# Altium footprint library DFN.PcbLib: 4 footprints
Each footprint in its own frame and in the unit in brackets; x right, y up, seen from the top. Pads: shape width x height; smd on the part's side, far side on the other; paste and mask are expansions set on the pad; w line width, h text height; cw(c..) or ccw(c..) is an arc to the next point about the centre after c.
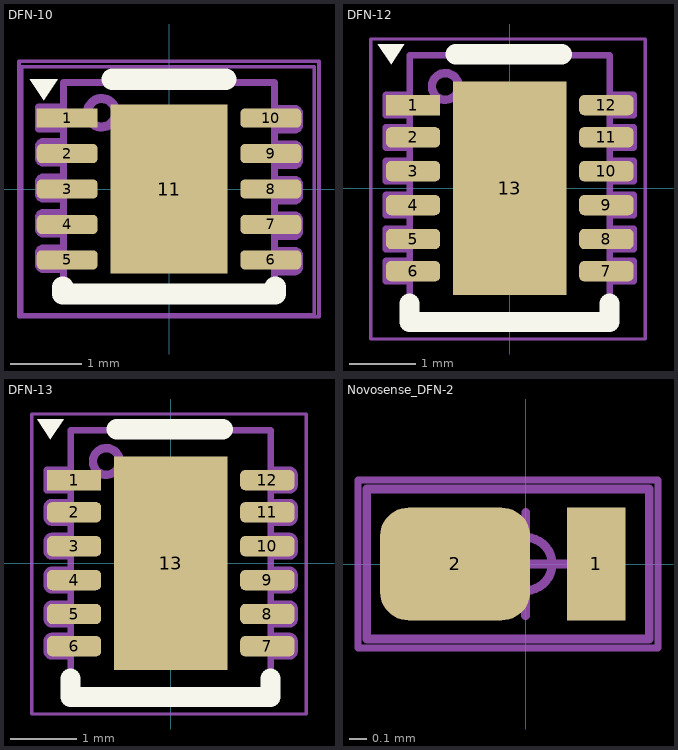
[diagram p0: the footprints below, top view; thin cyan lines are the x and y axes]

## DFN-10 [mm]
height 0.8
pads (11):
  rect 0.86x0.27 smd: 1(-1.435,1)
  rrect50% 0.86x0.27 smd: 2(-1.435,0.5) 3(-1.435,0) 4(-1.435,-0.5) 5(-1.435,-1) 6(1.435,-1) 7(1.435,-0.5) 8(1.435,0) 9(1.435,0.5) 10(1.435,1)
  rect 1.65x2.38 smd paste-2: 11(0,0)
Top Overlay:
  region: -1.566,1.549 -1.965,1.549 -1.765,1.25
  lines w0.3: -1.499,-1.382 -1.499,-1.482 1.499,-1.482 1.499,-1.382 ; -0.8,1.549 0.8,1.549
Top Paste:
  region: 0.522,-0.753 -0.522,-0.753 -0.522,0.753 0.522,0.753
Top Assembly:
  circle w0.127: c-0.95,1.075 r0.2
  lines w0.1: -1.486,-1.135 -1.765,-1.135 cw(c-1.765,-1.059) -1.841,-1.059 -1.841,-0.906 cw(c-1.765,-0.906) -1.765,-0.83 -1.486,-0.83 ; -1.486,-0.635 -1.765,-0.635 cw(c-1.765,-0.559) -1.841,-0.559 -1.841,-0.406 cw(c-1.765,-0.406) -1.765,-0.33 -1.486,-0.33 ; -1.486,-0.143 -1.765,-0.143 cw(c-1.765,-0.067) -1.841,-0.067 -1.841,0.086 cw(c-1.765,0.086) -1.765,0.162 -1.486,0.162 ; -1.486,-0.135 -1.765,-0.135 cw(c-1.765,-0.059) -1.841,-0.059 -1.841,0.094 cw(c-1.765,0.094) -1.765,0.17 -1.486,0.17 ; -1.486,0.365 -1.765,0.365 cw(c-1.765,0.441) -1.841,0.441 -1.841,0.594 cw(c-1.765,0.594) -1.765,0.67 -1.486,0.67 ; -1.486,0.848 -1.841,0.848 -1.841,1.152 -1.486,1.152 ; 1.486,-1.17 1.765,-1.17 ccw(c1.765,-1.094) 1.841,-1.094 1.841,-0.941 ccw(c1.765,-0.941) 1.765,-0.865 1.486,-0.865 ; 1.486,-0.67 1.765,-0.67 ccw(c1.765,-0.594) 1.841,-0.594 1.841,-0.441 ccw(c1.765,-0.441) 1.765,-0.365 1.486,-0.365 ; 1.486,-0.17 1.765,-0.17 ccw(c1.765,-0.094) 1.841,-0.094 1.841,0.059 ccw(c1.765,0.059) 1.765,0.135 1.486,0.135 ; 1.486,0.33 1.765,0.33 ccw(c1.765,0.406) 1.841,0.406 1.841,0.559 ccw(c1.765,0.559) 1.765,0.635 1.486,0.635 ; 1.486,0.83 1.765,0.83 ccw(c1.765,0.906) 1.841,0.906 1.841,1.059 ccw(c1.765,1.059) 1.765,1.135 1.486,1.135 ; -1.486,-1.5 -1.486,1.5 1.486,1.5 1.486,-1.5 -1.486,-1.5
Top Component Outline:
  lines w0.05: -2.075,-1.775 2.05,-1.775 2.05,1.725 -2.075,1.725 -2.075,-1.775
Bottom Component Outline:
  lines w0.05: -2.115,-1.8 -2.115,1.8 2.115,1.8 2.115,-1.8 -2.115,-1.8
Top Component Center:
  circle w0.1: c0.001,0 r0.5
  lines w0.1: -0.685,0 0.712,0 ; 0,-0.706 0,0.691
3D body "step_temp.STEP": height 0.8, standoff 0, extent -1.5,-1.5 1.5,1.5

## DFN-12 [mil]
pads (13):
  rect 32x12 smd: 1(-57,49)
  rrect50% 32x12 smd: 2(-57,30) 3(-57,10) 4(-57,-10) 5(-57,-30) 6(-57,-49)
  rrect50% 32x12 smd mask+3.94: 7(57,-49) 8(57,-30) 9(57,-10) 10(57,10) 11(57,30) 12(57,49)
  rect 67x126 smd: 13(0,0)
Top Overlay:
  region: -62.15,85 -77.85,85 -70,73.23
  lines w11.81: -59,-68 -59,-79 59,-79 59,-68 ; -32,79 31,79
Top Solder:
  rectangle: -77,-59 77,59
Top Assembly:
  circle w5: c-38,60 r7.87
  lines w3.94: -59,-55 -73,-55 -73,-43 -59,-43 ; -59,-36 -73,-36 -73,-24 -59,-24 ; -59,-16 -73,-16 -73,-4 -59,-4 ; -59,4 -73,4 -73,16 -59,16 ; -59,24 -73,24 -73,36 -59,36 ; -59,43 -73,43 -73,55 -59,55 ; 59,-55 73,-55 73,-43 59,-43 ; 59,-36 73,-36 73,-24 59,-24 ; 59,-16 73,-16 73,-4 59,-4 ; 59,4 73,4 73,16 59,16 ; 59,24 73,24 73,36 59,36 ; 59,43 73,43 73,55 59,55 ; -59,-79 59,-79 59,78.35 -59,78.35 -59,-79
Top Component Outline:
  lines w1.97: -82,-89 -82,88 80,88 80,-89 -82,-89
Top Component Center:
  circle w3.94: c0,0 r19.68
  lines w3.94: -27,0 28,0 ; -0.03,-27.8 -0.03,27.2
3D body "LT1763MPDE-5PBF.stp": height 29.53, standoff 0, extent -59.06,-78.74 59.06,78.74

## DFN-13 [mil]
pads (13):
  rect 32x12 smd: 1(-57,49)
  rrect50% 32x12 smd: 2(-57,30) 3(-57,10) 4(-57,-10) 5(-57,-30) 6(-57,-49) 7(57,-49) 8(57,-30) 9(57,-10) 10(57,10) 11(57,30) 12(57,49)
  rect 67x126 smd: 13(0,0)
Top Overlay:
  region: -63.15,85 -78.85,85 -71,73.23
  lines w11.81: -59,-68 -59,-79 59,-79 59,-68 ; -32,79 31,79
Top Assembly:
  circle w5: c-38,60 r7.87
  lines w3.94: -59,-55 -70.01,-55 cw(c-70.01,-52.01) -73,-52.01 -73,-45.99 cw(c-70.01,-45.99) -70.01,-43 -59,-43 ; -59,-36 -70.01,-36 cw(c-70.01,-33.01) -73,-33.01 -73,-26.99 cw(c-70.01,-26.99) -70.01,-24 -59,-24 ; -59,-16 -70.01,-16 cw(c-70.01,-13.01) -73,-13.01 -73,-6.99 cw(c-70.01,-6.99) -70.01,-4 -59,-4 ; -59,4 -70.01,4 cw(c-70.01,6.99) -73,6.99 -73,13.01 cw(c-70.01,13.01) -70.01,16 -59,16 ; -59,24 -70.01,24 cw(c-70.01,26.99) -73,26.99 -73,33.01 cw(c-70.01,33.01) -70.01,36 -59,36 ; -59,43 -73,43 -73,55 -59,55 ; 59,-55 70.01,-55 ccw(c70.01,-52.01) 73,-52.01 73,-45.99 ccw(c70.01,-45.99) 70.01,-43 59,-43 ; 59,-36 70.01,-36 ccw(c70.01,-33.01) 73,-33.01 73,-26.99 ccw(c70.01,-26.99) 70.01,-24 59,-24 ; 59,-16 70.01,-16 ccw(c70.01,-13.01) 73,-13.01 73,-6.99 ccw(c70.01,-6.99) 70.01,-4 59,-4 ; 59,4 70.01,4 ccw(c70.01,6.99) 73,6.99 73,13.01 ccw(c70.01,13.01) 70.01,16 59,16 ; 59,24 70.01,24 ccw(c70.01,26.99) 73,26.99 73,33.01 ccw(c70.01,33.01) 70.01,36 59,36 ; 59,43 70.01,43 ccw(c70.01,45.99) 73,45.99 73,52.01 ccw(c70.01,52.01) 70.01,55 59,55 ; -59,-79 59,-79 59,78.35 -59,78.35 -59,-79
Top Component Outline:
  lines w1.97: -82,-89 80,-89 80,88 -82,88 -82,-89
Top Component Center:
  circle w3.94: c0,0 r19.68
  lines w3.94: -27,0 28,0 ; -0.03,-27.8 -0.03,27.2
3D body "LT1763MPDE-5PBF.stp": height 29.53, standoff 0, extent -59.06,-78.74 59.06,78.74

## Novosense_DFN-2 [mm]
height 0.45
pads (2):
  rect 0.33x0.64 smd: 1(0.4,0)
  rrect50% 0.85x0.64 smd: 2(-0.4,0)
Top 3D Body:
  lines w0.05: -0.9,-0.425 0.7,-0.425 0.7,0.425 -0.9,0.425 -0.9,-0.425
Top Component Outline:
  lines w0.04: -0.95,-0.475 0.75,-0.475 0.75,0.475 -0.95,0.475 -0.95,-0.475
Top Component Center:
  circle w0.05: c0,0 r0.15
  lines w0.05: -0.292,0 0.292,0 ; 0,-0.292 0,0.292
3D body: height 0.45, standoff 0, extent -0.9,-0.425 0.7,0.425